# Altium footprint library Project lib.PcbLib: 3 footprints
Each footprint in its own frame and in the unit in brackets; x right, y up, seen from the top. Pads: shape width x height; smd on the part's side, far side on the other; paste and mask are expansions set on the pad; w line width, h text height; cw(c..) or ccw(c..) is an arc to the next point about the centre after c.
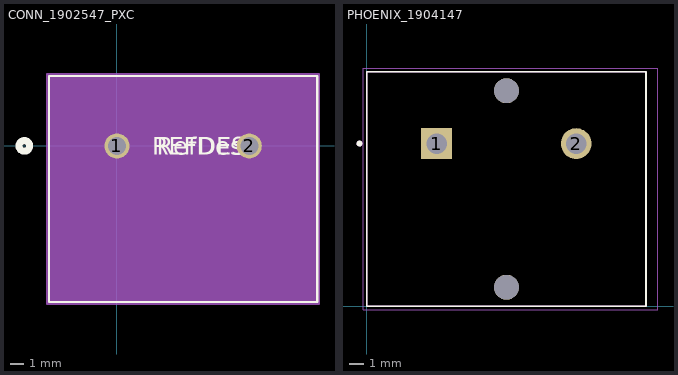
[diagram p0: the footprints below, top view; thin cyan lines are the x and y axes]

## CONN_1902547_PXC [mil]
pads (2):
  round 71 / inner round 60 / far side round 71 hole 51 paste-99999 mask+0: 1(0,0) 2(374.8,0)
Top Overlay:
  circle w20: c-262.4,0 r15
  lines w6: -192.4,-442.01 -192.4,197.91 567.2,197.91 567.2,-442.01 -192.4,-442.01
  text "REFDES" at 99.9,-25 h50
  text "RefDes" at 112.4,-25 h50
Bottom Overlay:
  circle w20: c-262.4,0 r15
Mechanical 13:
  circle w20: c0,75 r15
  lines w1: -187.4,-437.01 -187.4,192.91 562.2,192.91 562.2,-437.01 -187.4,-437.01
  text "RefDes2" at 99.9,-25 h50
Mechanical 15:
  region: 572.2,202.91 -197.4,202.91 -197.4,-447.01 572.2,-447.01
  lines w6: -197.4,-447.01 572.2,-447.01 572.2,202.91 -197.4,202.91 -197.4,-447.01

## PCBComponent_1 [mm]

## PHOENIX_1904147 [mm]
height 21.7
pads (4):
  rect 2.1x2.1 / inner round 2.1 / far side rect 2.1x2.1 hole 1.4: 1(4.76,11.1)
  round 2.1 hole 1.4: 2(14.28,11.1)
  round 1.7 hole 1.7 unplated: ""(9.52,1.3) ""(9.52,14.7)
Top Overlay:
  circle w0.2: c-0.5,11.1 r0.1
  lines w0.127: 0,0 0,16 19.04,16 19.04,0 0,0
Mechanical 13:
  circle w0.2: c-0.5,11.1 r0.1
  lines w0.127: 0,0 0,16 19.04,16 19.04,0 0,0
Mechanical 15:
  lines w0.05: -0.25,-0.25 -0.25,16.25 19.86,16.25 19.86,-0.25 -0.25,-0.25
3D body "step_temp.STEP": height 21.7, standoff -5.4, extent 0,0 19.61,16